# Altium footprint library Bosch.PcbLib: 1 footprints
Each footprint in its own frame and in the unit in brackets; x right, y up, seen from the top. Pads: shape width x height; smd on the part's side, far side on the other; paste and mask are expansions set on the pad; w line width, h text height; cw(c..) or ccw(c..) is an arc to the next point about the centre after c.
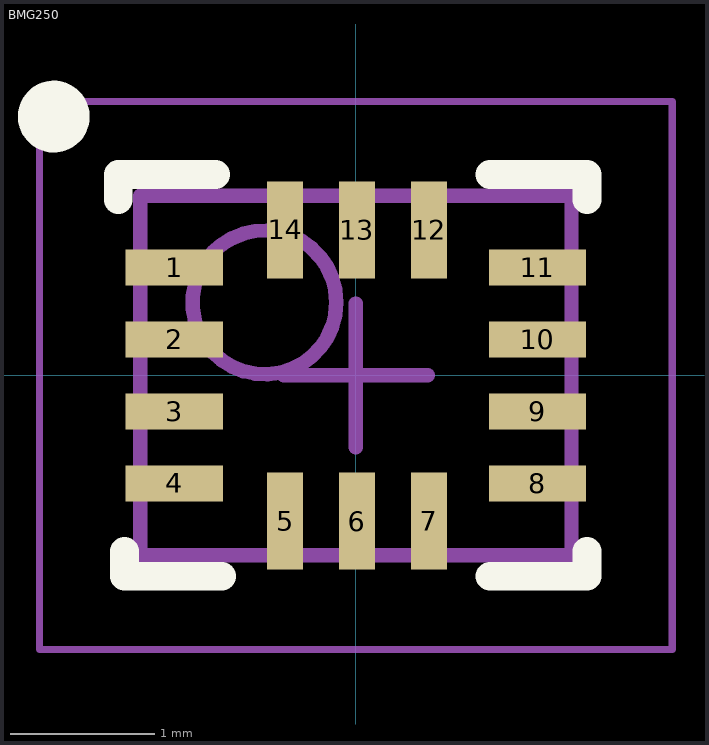
[diagram p0: the footprint, top view; thin cyan lines are the x and y axes]

## BMG250 [mm] "LGA"
pads (14):
  rect 0.675x0.25 smd: 1(-1.263,0.75) 2(-1.263,0.25) 3(-1.263,-0.25) 4(-1.263,-0.75) 8(1.263,-0.75) 9(1.263,-0.25) 10(1.263,0.25) 11(1.263,0.75)
  rect 0.25x0.675 smd: 5(-0.492,-1.013) 6(0.008,-1.013) 7(0.508,-1.013) 12(0.508,1.013) 13(0.008,1.013) 14(-0.492,1.013)
Top Overlay:
  circle w0.25: c-2.1,1.8 r0.125
  lines w0.2: -1.651,1.222 -1.651,1.397 -0.976,1.397 ; -1.607,-1.222 -1.607,-1.397 -0.933,-1.397 ; 0.933,-1.397 1.607,-1.397 1.607,-1.222 ; 0.933,1.397 1.607,1.397 1.607,1.222
Mechanical 13:
  circle w0.1: c-0.635,0.508 r0.5
  lines w0.1: -1.5,-1.25 -1.5,1.25 1.5,1.25 1.5,-1.25 -1.5,-1.25
Mechanical 15:
  lines w0.05: -2.2,-1.905 -2.2,1.905 2.2,1.905 2.2,-1.905 -2.2,-1.905
  lines w0.1: -0.5,0 0.5,0 ; 0,-0.5 0,0.5